# Altium footprint library WL-SIMW.PcbLib: 2 footprints
Each footprint in its own frame and in the unit in brackets; x right, y up, seen from the top. Pads: shape width x height; smd on the part's side, far side on the other; paste and mask are expansions set on the pad; w line width, h text height; cw(c..) or ccw(c..) is an arc to the next point about the centre after c.
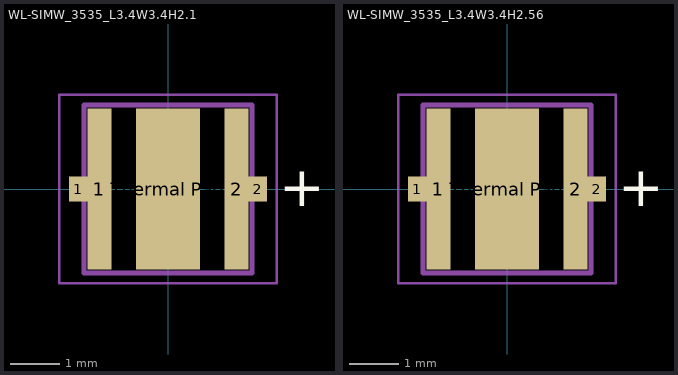
[diagram p0: the footprints below, top view; thin cyan lines are the x and y axes]

## WL-SIMW_3535_L3.4W3.4H2.1 [mm] "SMD Infrared Ceramic LED, body 3.4x3.4mm"
height 2.1
pads (5):
  rect 0.375x0.5 smd: 1(-1.813,0) 2(1.813,0)
  rect 0.48x3.25 smd: 1(-1.385,0) 2(1.385,0)
  rect 1.3x3.25 smd: "Thermal Pad"(0,0)
Top Overlay:
  text "+" at 2.25,-0.35 h0.8
Top Assembly:
  lines w0.1: -1.7,-1.7 -1.7,1.7 1.7,1.7 1.7,-1.7 -1.7,-1.7
Top Designator:
  text ".Designator" at -3.647,-0.357 h1
Top 3D Body:
  lines w0.1: -1.7,-1.7 1.7,-1.7 1.7,1.7 -1.7,1.7 -1.7,-1.7
Top Courtyard:
  lines w0.05: -2.2,-1.9 -2.2,1.9 2.2,1.9 2.2,-1.9 -2.2,-1.9
Top Component Center:
  lines w0.1: -0.5,0 0.5,0 ; 0,-0.5 0,0.5
3D body "154353xxAA350.stp": height 2.1, standoff 0, extent -1.7,-1.7 1.7,1.7

## WL-SIMW_3535_L3.4W3.4H2.56 [mm] "SMD Infrared Ceramic LED, body 3.4x3.4mm"
height 2.56
pads (5):
  rect 0.375x0.5 smd: 1(-1.813,0) 2(1.813,0)
  rect 0.48x3.25 smd: 1(-1.385,0) 2(1.385,0)
  rect 1.3x3.25 smd: "Thermal Pad"(0,0)
Top Overlay:
  text "+" at 2.25,-0.35 h0.8
Top Assembly:
  lines w0.1: -1.7,-1.7 -1.7,1.7 1.7,1.7 1.7,-1.7 -1.7,-1.7
Top Designator:
  text ".Designator" at -3.647,-0.357 h1
Top 3D Body:
  lines w0.1: -1.7,-1.7 1.7,-1.7 1.7,1.7 -1.7,1.7 -1.7,-1.7
Top Courtyard:
  lines w0.05: -2.2,-1.9 -2.2,1.9 2.2,1.9 2.2,-1.9 -2.2,-1.9
Top Component Center:
  lines w0.1: -0.5,0 0.5,0 ; 0,-0.5 0,0.5
3D body "154353xxA9050.stp": height 2.56, standoff 0, extent -1.7,-1.7 1.7,1.7